# Altium schematic symbol library MODCMP-P120-M22X14_New.SchLib: 1 symbol
Pins are listed as number, name and electrical type; pins without a type are passive.

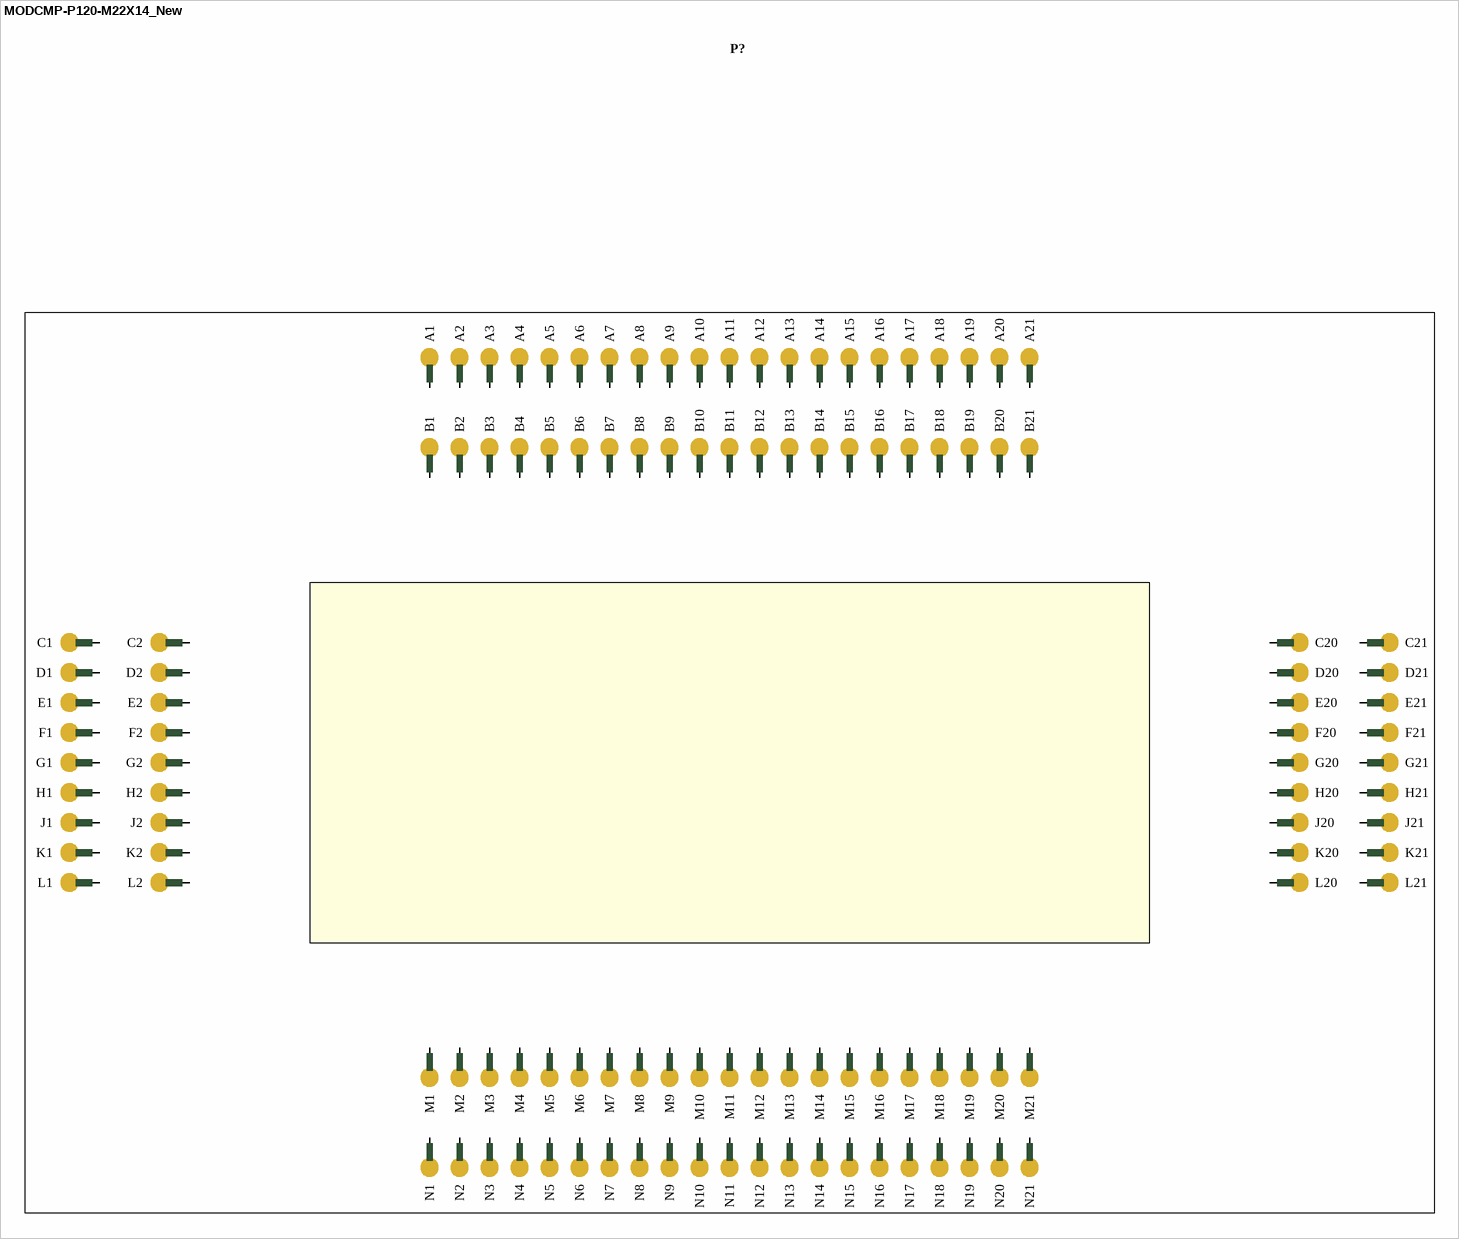
[diagram p0: symbol MODCMP-P120-M22X14_New]

## MODCMP-P120-M22X14_New
designator P?  (no BOM)
pins: A1, A2, A3, A4, A5, A6, A7, A8, A9, A10, A11, A12, A13, A14, A15, A16, A17, A18, A19, A20, A21, B1, B2, B3, B4, B5, B6, B7, B8, B9, B10, B11, B12, B13, B14, B15, B16, B17, B18, B19, B20, B21, C1, C2, C20, C21, D1, D2, D20, D21, E1, E2, E20, E21, F1, F2, F20, F21, G1, G2, G20, G21, H1, H2, H20, H21, J1, J2, J20, J21, K1, K2, K20, K21, L1, L2, L20, L21, M1, M2, M3, M4, M5, M6, M7, M8, M9, M10, M11, M12, M13, M14, M15, M16, M17, M18, M19, M20, M21, N1, N2, N3, N4, N5, N6, N7, N8, N9, N10, N11, N12, N13, N14, N15, N16, N17, N18, N19, N20, N21